# Altium footprint library pulser.PcbLib: 19 footprints (part 2 of 2)
Each footprint in its own frame and in the unit in brackets; x right, y up, seen from the top. Pads: shape width x height; smd on the part's side, far side on the other; paste and mask are expansions set on the pad; w line width, h text height; cw(c..) or ccw(c..) is an arc to the next point about the centre after c.
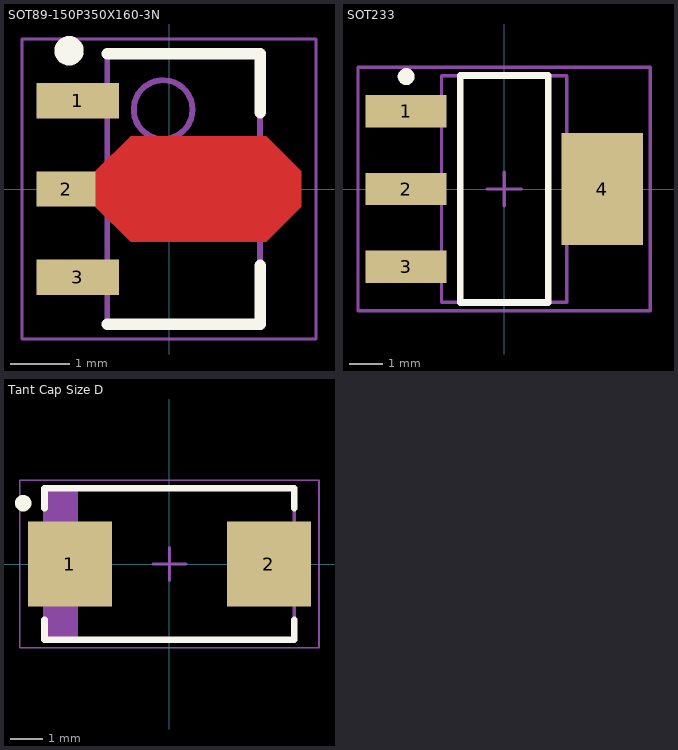
[diagram p1: the footprints below, top view; thin cyan lines are the x and y axes]

## SOT89-150P350X160-3N [mm] "SOT89, 3-Leads, Body 4.50x2.50mm, Pitch 1.50mm, Lead Span 3.5mm, IPC Medium Density"
height 1.6
pads (3):
  rect 1.4x0.6 smd: 1(-1.55,1.5) 3(-1.55,-1.5)
  rect 1x0.6 smd: 2(-1.75,0)
Top Layer:
  region: -1.25,0.3 -0.65,0.9 1.65,0.9 2.25,0.3 2.25,-0.3 1.65,-0.9 -0.65,-0.9 -1.25,-0.3
Top Overlay:
  circle w0.25: c-1.7,2.35 r0.125
  lines w0.2: -1.05,-2.3 1.55,-2.3 1.55,-1.3 ; -1.05,2.3 1.55,2.3 1.55,1.3
Mechanical 13:
  circle w0.1: c-0.1,1.35 r0.5
  lines w0.1: -1.05,-2.3 1.55,-2.3 1.55,2.3 -1.05,2.3 -1.05,-2.3
Mechanical 15:
  lines w0.05: -2.5,-2.55 2.5,-2.55 2.5,2.55 -2.5,2.55 -2.5,-2.55
  lines w0.1: -0.25,0 0.75,0 ; 0.25,-0.5 0.25,0.5
3D body: height 1.6, standoff 0, extent -1.05,-2.3 1.55,2.3

## SOT233 [mm] "SOT223, 4-Leads including Tab"
height 1.8
pads (4):
  rect 2.4x0.95 smd: 1(-2.9,2.3) 2(-2.9,0) 3(-2.9,-2.3)
  rect 2.4x3.3 smd: 4(2.9,0)
Top Overlay:
  circle w0.25: c-2.9,3.325 r0.125
  lines w0.2: -1.3,-3.355 1.3,-3.355 1.3,3.355 -1.3,3.355 -1.3,-3.355
Mechanical 13:
  lines w0.1: -1.855,-3.355 1.855,-3.355 1.855,3.355 -1.855,3.355 -1.855,-3.355
Mechanical 15:
  lines w0.1: -0.5,0 0.5,0 ; 0,-0.5 0,0.5 ; -4.325,-3.605 4.325,-3.605 4.325,3.605 -4.325,3.605 -4.325,-3.605
3D body: height 1.8, standoff 0.02, extent -1.855,-3.355 1.855,3.355

## Tant Cap Size D [mm] "Kemet Size D, 7343"
height 3.1
pads (2):
  rect 2.55x2.6 smd: 1(-3.025,0) 2(3.025,0)
Top Overlay:
  circle w0.25: c-4.45,1.85 r0.125
  lines w0.2: -3.8,-1.7 -3.8,-2.3 3.8,-2.3 3.8,-1.7 ; -3.8,1.7 -3.8,2.3 3.8,2.3 3.8,1.7
Mechanical 13:
  rectangle: -3.8,-2.3 -2.778,2.3
  lines w0.1: -3.8,-2.3 3.8,-2.3 3.8,2.3 -3.8,2.3 -3.8,-2.3
Mechanical 15:
  lines w0.05: -4.55,-2.55 4.55,-2.55 4.55,2.55 -4.55,2.55 -4.55,-2.55
  lines w0.1: -0.5,0 0.5,0 ; 0,-0.5 0,0.5
3D body: height 3.1, standoff 0, extent -3.8,-2.3 3.8,2.3